# EAGLE library part MAX11300GTL (library MAX11300)
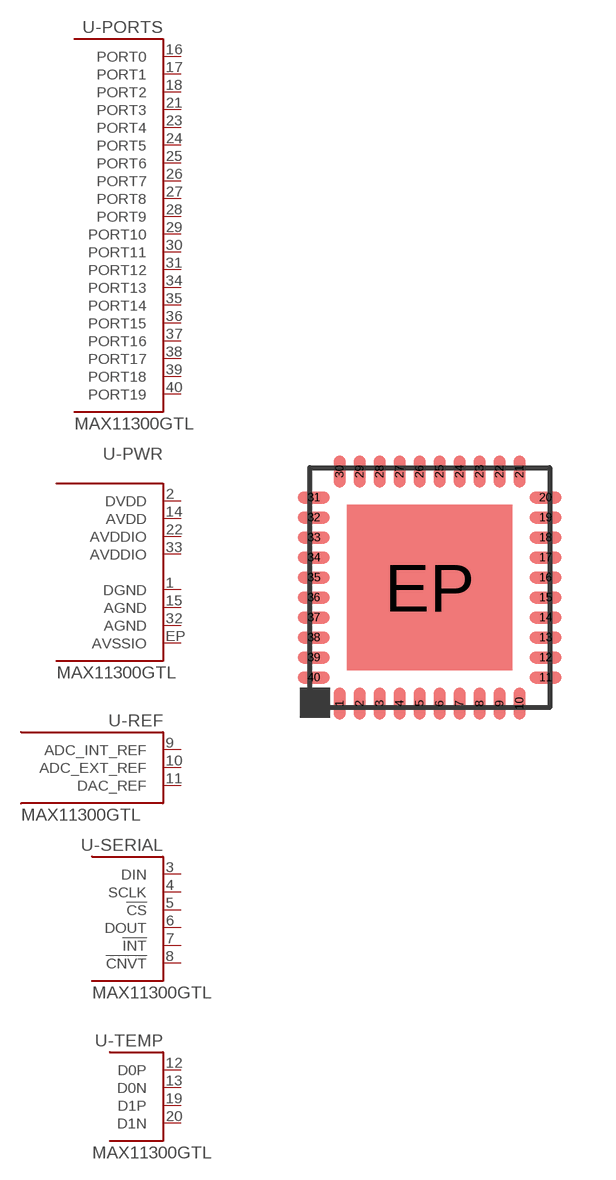
[diagram p0: symbol with the pads of TQFN40; footprint TQFN40]

Designator prefix U; gates -PORTS=PORTS -PWR=PWR-TQFN -REF=REF -SERIAL=SERIAL -TEMP=TEMP

## MAX11300GTL  [TQFN40]
1  -PWR:DGND
2  -PWR:DVDD
3  -SERIAL:DIN
4  -SERIAL:SCLK
5  -SERIAL:!CS!
6  -SERIAL:DOUT
7  -SERIAL:!INT!
8  -SERIAL:!CNVT!
9  -REF:ADC_INT_REF
10  -REF:ADC_EXT_REF
11  -REF:DAC_REF
12  -TEMP:D0P
13  -TEMP:D0N
14  -PWR:AVDD
15  -PWR:AGND
16  -PORTS:PORT0
17  -PORTS:PORT1
18  -PORTS:PORT2
19  -TEMP:D1P
20  -TEMP:D1N
21  -PORTS:PORT3
22  -PWR:AVDDIO
23  -PORTS:PORT4
24  -PORTS:PORT5
25  -PORTS:PORT6
26  -PORTS:PORT7
27  -PORTS:PORT8
28  -PORTS:PORT9
29  -PORTS:PORT10
30  -PORTS:PORT11
31  -PORTS:PORT12
32  -PWR:AGND
33  -PWR:AVDDIO
34  -PORTS:PORT13
35  -PORTS:PORT14
36  -PORTS:PORT15
37  -PORTS:PORT16
38  -PORTS:PORT17
39  -PORTS:PORT18
40  -PORTS:PORT19
EP  -PWR:AVSSIO

## Footprint TQFN40 (pad centres in mm)
smd 0.3 x 0.8: 1 -2.25,-2.9; 2 -1.75,-2.9; 3 -1.25,-2.9; 4 -0.75,-2.9; 5 -0.25,-2.9; 6 0.25,-2.9; 7 0.75,-2.9; 8 1.25,-2.9; 9 1.75,-2.9; 10 2.25,-2.9; 21 2.25,2.9; 22 1.75,2.9; 23 1.25,2.9; 24 0.75,2.9; 25 0.25,2.9; 26 -0.25,2.9; 27 -0.75,2.9; 28 -1.25,2.9; 29 -1.75,2.9; 30 -2.25,2.9
smd 0.8 x 0.3: 11 2.9,-2.25; 12 2.9,-1.75; 13 2.9,-1.25; 14 2.9,-0.75; 15 2.9,-0.25; 16 2.9,0.25; 17 2.9,0.75; 18 2.9,1.25; 19 2.9,1.75; 20 2.9,2.25; 31 -2.9,2.25; 32 -2.9,1.75; 33 -2.9,1.25; 34 -2.9,0.75; 35 -2.9,0.25; 36 -2.9,-0.25; 37 -2.9,-0.75; 38 -2.9,-1.25; 39 -2.9,-1.75; 40 -2.9,-2.25
smd 4.13 x 4.13: EP 0,0